# Altium footprint library IMU_MPU6050.PcbLib: 1 footprints
Each footprint in its own frame and in the unit in brackets; x right, y up, seen from the top. Pads: shape width x height; smd on the part's side, far side on the other; paste and mask are expansions set on the pad; w line width, h text height; cw(c..) or ccw(c..) is an arc to the next point about the centre after c.
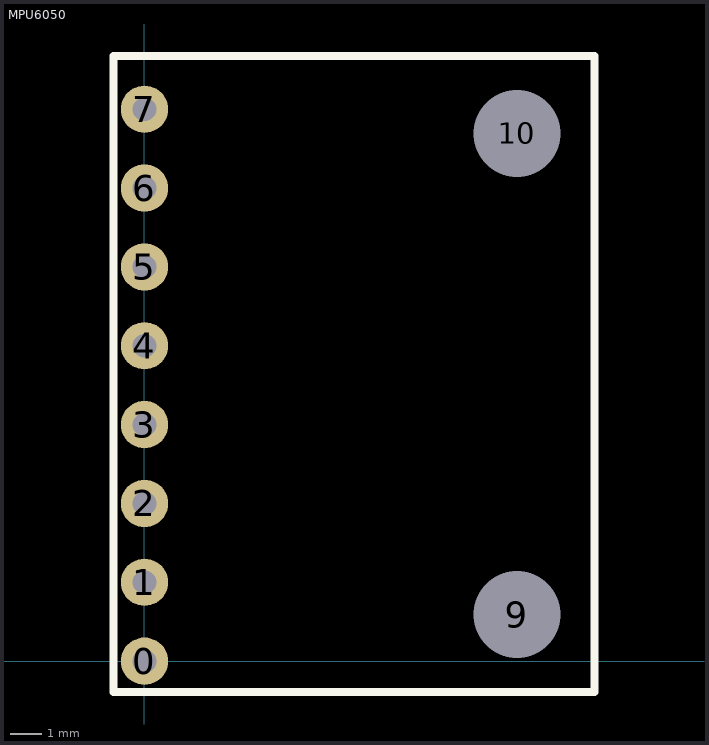
[diagram p0: the footprint, top view; thin cyan lines are the x and y axes]

## MPU6050 [mil]
pads (10):
  round 60 hole 30: 0(0,0) 1(0,100) 2(0,200) 3(0,300) 4(0,400) 5(0,500) 6(0,600) 7(0,700)
  round 60 hole 110.24: 9(472.44,59.06) 10(472.44,669.29)
Top Overlay:
  lines w10: -39.37,-39.37 551.18,-39.37 570.87,-39.37 570.87,767.72 -39.37,767.72 -39.37,748.03 -39.37,-39.37